# Altium footprint library Battery.PcbLib: 2 footprints
Each footprint in its own frame and in the unit in brackets; x right, y up, seen from the top. Pads: shape width x height; smd on the part's side, far side on the other; paste and mask are expansions set on the pad; w line width, h text height; cw(c..) or ccw(c..) is an arc to the next point about the centre after c.
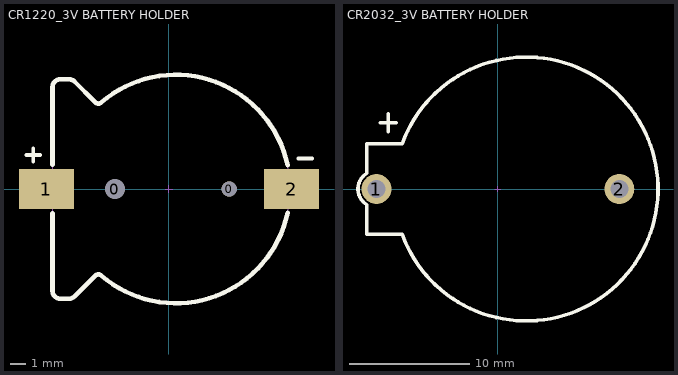
[diagram p0: the footprints below, top view; thin cyan lines are the x and y axes]

## CR1220_3V BATTERY HOLDER [mm] "BATT HOLDER COIN 12MM 1 CELL SMD"
height 8
pads (4):
  round 1.3 hole 1.3: 0(-3.55,0)
  round 1 hole 1: 0(3.95,0)
  rect 3.6x2.6 smd: 1(-8.05,0) 2(8.05,0)
Top Overlay:
  lines w0.254: -9.36,2.23 -8.46,2.23 ; -8.91,1.8 -8.91,2.65 ; 8.5,2 9.4,2
  lines w0.3: -7.65,-1.6 -7.65,-6.7 ccw(c-7.15,-6.7) -7.15,-7.2 -6.53,-7.2 ccw(c-6.53,-6.784) -6.236,-7.078 -6.228,-7.078 -4.845,-5.695 ; -7.65,1.6 -7.65,6.7 cw(c-7.15,6.7) -7.15,7.2 ; -7.146,7.196 -6.52,7.196 cw(c-6.52,6.78) -6.226,7.074 ; -6.24,7.09 -4.845,5.695 ; -4.846,-5.694 cw(c-4.64,-5.9) -4.434,-5.694 ; -4.846,5.694 ccw(c-4.64,5.9) -4.434,5.694 ; -4.433,-5.693 ccw(c0.45,0) 7.786,-1.559 ; -4.433,5.693 cw(c0.45,0) 7.786,1.559
Top HCB:
  lines w0.05: -9.36,2.23 -8.46,2.23 ; -8.91,1.8 -8.91,2.65 ; -7.15,7.2 ccw(c-7.15,6.7) -7.65,6.7 -7.65,1.25 -9.75,1.25 -9.75,-1.25 -7.65,-1.25 -7.65,-6.7 ccw(c-7.15,-6.7) -7.15,-7.2 -6.53,-7.2 ccw(c-6.53,-6.784) -6.236,-7.078 -6.228,-7.078 -4.845,-5.695 ; -7.146,7.196 -6.52,7.196 cw(c-6.52,6.78) -6.226,7.074 ; -6.24,7.09 -4.845,5.695 ; -4.846,-5.694 cw(c-4.64,-5.9) -4.434,-5.694 ; -4.846,5.694 ccw(c-4.64,5.9) -4.434,5.694 ; -4.433,-5.693 ccw(c0.45,0) 7.842,-1.266 ; -4.433,5.693 cw(c0.45,0) 7.842,1.266 ; -0.25,0 0.25,0 ; 0,-0.25 0,0.25 ; 7.842,-1.25 9.75,-1.25 9.75,1.25 7.842,1.25 ; 8.5,2 9.4,2
3D body "User Library-CR1220-2.STEP": height 3.8, standoff 1.8, extent -5.75,-6.2 6.65,6.2
3D body "User Library-Battery Holder for CR1220 SMD.STEP": height 4.23, standoff -0.52, extent -9.35,-7.399 9.45,7.35

## CR2032_3V BATTERY HOLDER [mm] "Battery Holder (Open) Coin, 20.0mm 1 Cell PC Pin"
height 8
pads (2):
  round 2.5 hole 1.5: 1(-10.125,0) 2(10.125,0)
Top Overlay:
  lines w0.3: -9.79,5.53 -8.49,5.53 ; -9.15,4.78 -9.15,6.26 ; -7.982,-3.776 ccw(c2.35,0) -7.982,3.776 ; -7.98,-3.775 -10.95,-3.775 -10.95,-1.3 cw(c-10.125,0) -10.95,1.3 -10.95,3.775 -7.98,3.775
Top HCB:
  lines w0.05: -9.79,5.53 -8.49,5.53 ; -9.15,4.78 -9.15,6.26 ; -7.982,-3.776 ccw(c2.35,0) -7.982,3.776 ; -7.98,-3.775 -10.95,-3.775 -10.95,-1.3 cw(c-10.125,0) -10.95,1.3 -10.95,3.775 -7.98,3.775 ; -0.25,0 0.25,0 ; 0,-0.25 0,0.25
3D body "CR2032.stp": height 5.2, standoff 1.7, extent -7.65,-10 12.35,10
3D body "User Library-CR2032_HOR_HOLD.step": height 8.5, standoff -4, extent -11.15,-11 13.35,11